# EAGLE library part V8FR-II (library CUCombatBots)
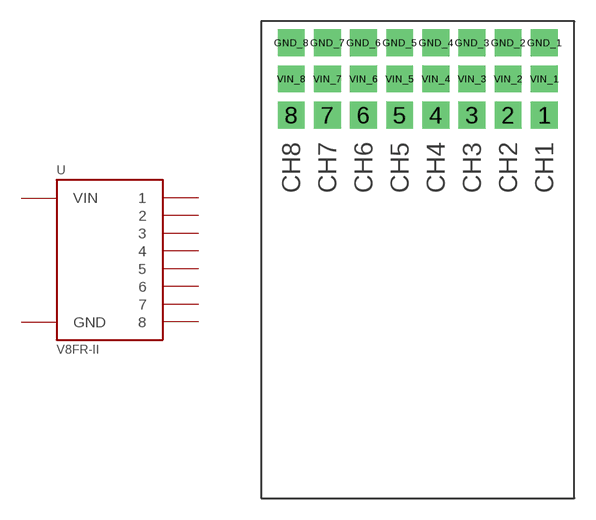
[diagram p1: symbol with the pads of V8FR-II; footprint V8FR-II]

Designator prefix U

## V8FR-II  [V8FR-II]
1  1
2  2
3  3
4  4
5  5
6  6
7  7
8  8
GND_1  GND
GND_2  GND
GND_3  GND
GND_4  GND
GND_5  GND
GND_6  GND
GND_7  GND
GND_8  GND
VIN_1  VIN
VIN_2  VIN
VIN_3  VIN
VIN_4  VIN
VIN_5  VIN
VIN_6  VIN
VIN_7  VIN
VIN_8  VIN

## Footprint V8FR-II (pad centres in mm)
drill 1.016 pad 1.88 square: 1 8.89,10.16; 2 6.35,10.16; 3 3.81,10.16; 4 1.27,10.16; 5 -1.27,10.16; 6 -3.81,10.16; 7 -6.35,10.16; 8 -8.89,10.16; GND_1 8.89,15.24; GND_2 6.35,15.24; GND_3 3.81,15.24; GND_4 1.27,15.24; GND_5 -1.27,15.24; GND_6 -3.81,15.24; GND_7 -6.35,15.24; GND_8 -8.89,15.24; VIN_1 8.89,12.7; VIN_2 6.35,12.7; VIN_3 3.81,12.7; VIN_4 1.27,12.7; VIN_5 -1.27,12.7; VIN_6 -3.81,12.7; VIN_7 -6.35,12.7; VIN_8 -8.89,12.7